# Altium footprint library BPW 34 SR-Z.PcbLib: 1 footprints
Each footprint in its own frame and in the unit in brackets; x right, y up, seen from the top. Pads: shape width x height; smd on the part's side, far side on the other; paste and mask are expansions set on the pad; w line width, h text height; cw(c..) or ccw(c..) is an arc to the next point about the centre after c.
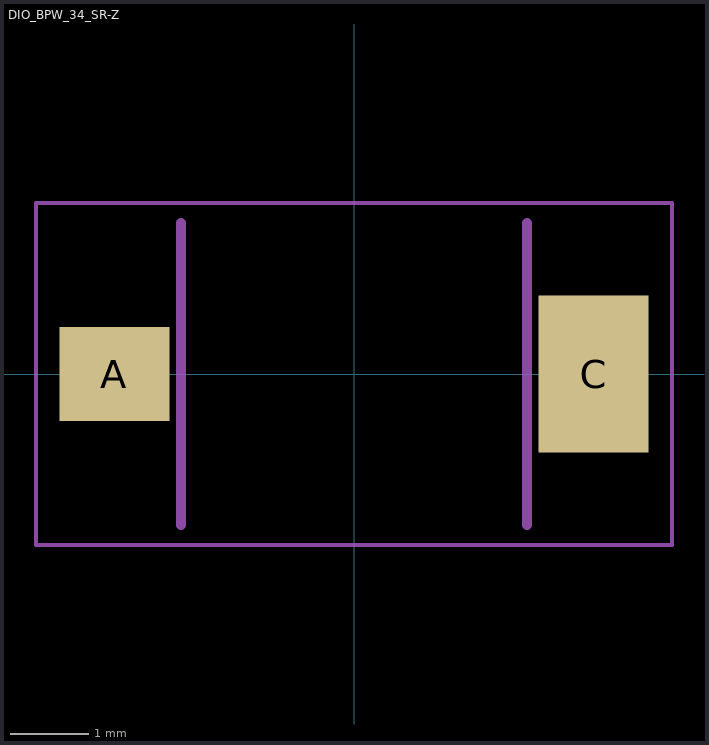
[diagram p0: the footprint, top view; thin cyan lines are the x and y axes]

## DIO_BPW_34_SR-Z [mm]
pads (2):
  rect 1.4x1.2 smd paste-0.05 mask+0.05: A(-3.05,0)
  rect 1.4x2 smd paste-0.05 mask+0.05: C(3.05,0)
Mechanical 13:
  lines w0.127: -2.2,-1.925 -2.2,1.925 ; 2.2,-1.925 2.2,1.925
Mechanical 15:
  lines w0.05: -4.05,-2.175 -4.05,2.175 4.05,2.175 4.05,-2.175 -4.05,-2.175
3D body "step_temp.STEP": height 1.3, standoff 0, extent -3.225,-1.925 3.225,1.925